# Altium integrated library MMBT3904LT1G.IntLib: 1 symbol
Pins are listed as number, name and electrical type; pins without a type are passive.

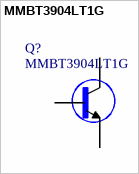
[diagram p0: symbol MMBT3904LT1G]

## MMBT3904LT1G
designator Q?
MF: ON Semiconductor; Price: None; SnapEDA_Link: https://www.snapeda.com/parts/MMBT3904LT1G/ON%20Semiconductor/view-part/?ref=snap; Availability: Unavailable; MP: MMBT3904LT1G; Package: SOT-23-3 NXP Semiconductors; Value: *
footprint *SOT23
pins: 1 B, 2 E, 3 C